# Altium integrated library Capacitor - Aluminium TH.IntLib: 4591 symbols (part 45 of 68)
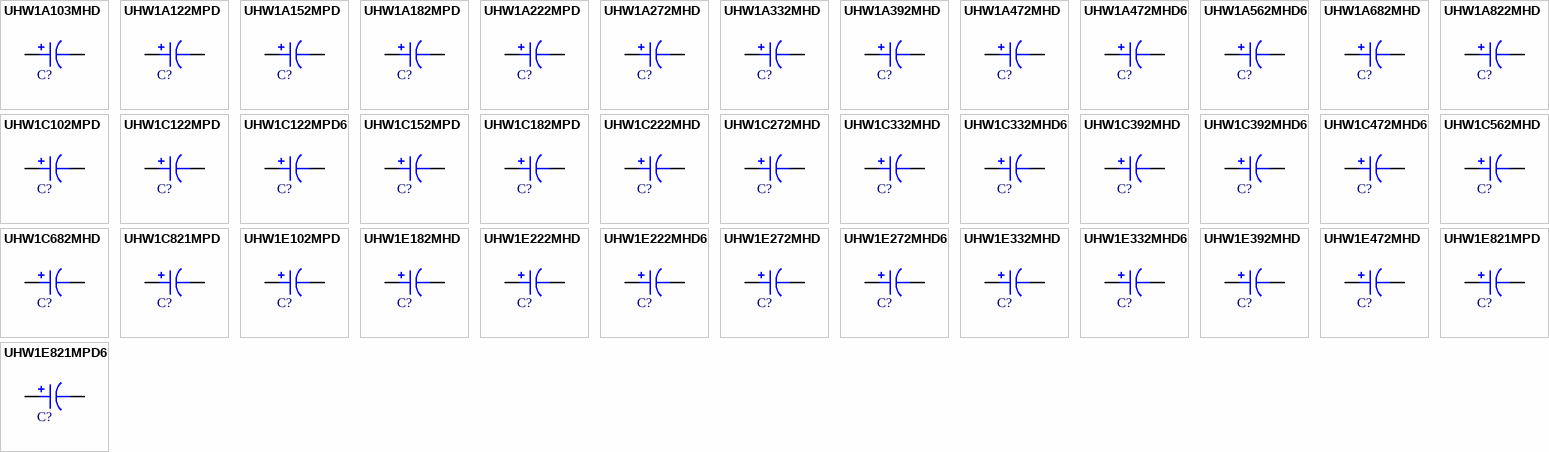
[diagram p158: symbols UHW1A103MHD to UHW1E821MPD6]

## UHW1C392MHD6
designator C?, comment 3900uF  (value not drawn)
CAP ALUM 3900UF 20% 16V RADIAL; Part Number: UHW1C392MHD6; Manufacturer: Nichicon; TemperatureRange: -40C ~ 105C; Type: Polar; Ripple Current: 2.681A @ 120Hz; Impedance: 14 mOhm; Value: 3900uF; PartId: 26476; Supplier 1: Digi-Key; Supplier Part Number 1: 493-6970-ND; ComponentLink1Description: Datasheet; ComponentLink1URL: http://nichicon-us.com/english/products/pdfs/e-uhw.pdf; ComponentLink2Description: Digi-Key Listing; ComponentLink2URL: https://www.digikey.com/product-detail/en/nichicon/UHW1C392MHD6/493-6970-ND/3664399; Tolerance: 20%; Voltage: 16V; Price: 1.76; Device Package: Radial, Can, 16mm
footprint CAP AL TH D16 L7.5 H22
pins: 1, 2

## UHW1C472MHD6
designator C?, comment 4700uF  (value not drawn)
CAP ALUM 4700UF 20% 16V RADIAL; Part Number: UHW1C472MHD6; Manufacturer: Nichicon; TemperatureRange: -40C ~ 105C; Type: Polar; Ripple Current: 3.239A @ 120Hz; Impedance: 13 mOhm; Value: 4700uF; PartId: 26947; Supplier 1: Digi-Key; Supplier Part Number 1: 493-6913-ND; ComponentLink1Description: Datasheet; ComponentLink1URL: http://nichicon-us.com/english/products/pdfs/e-uhw.pdf; ComponentLink2Description: Digi-Key Listing; ComponentLink2URL: https://www.digikey.com/product-detail/en/nichicon/UHW1C472MHD6/493-6913-ND/3664405; Tolerance: 20%; Voltage: 16V; Price: 2.02; Device Package: Radial, Can, 16mm
footprint CAP AL TH D16 L7.5 H27
pins: 1, 2

## UHW1C562MHD
designator C?, comment 5600uF  (value not drawn)
CAP ALUM 5600UF 20% 16V RADIAL; Part Number: UHW1C562MHD; Manufacturer: Nichicon; TemperatureRange: -40C ~ 105C; Type: Polar; Ripple Current: 3.239A @ 120Hz; Impedance: 13 mOhm; Value: 5600uF; PartId: 26956; Supplier 1: Digi-Key; Supplier Part Number 1: 493-6829-ND; ComponentLink1Description: Datasheet; ComponentLink1URL: http://nichicon-us.com/english/products/pdfs/e-uhw.pdf; ComponentLink2Description: Digi-Key Listing; ComponentLink2URL: https://www.digikey.com/product-detail/en/nichicon/UHW1C562MHD/493-6829-ND/3664408; Tolerance: 20%; Voltage: 16V; Price: 2.1; Device Package: Radial, Can, 16mm
footprint CAP AL TH D16 L7.5 H27
pins: 1, 2

## UHW1C682MHD
designator C?, comment 6800uF  (value not drawn)
CAP ALUM 6800UF 20% 16V RADIAL; Part Number: UHW1C682MHD; Manufacturer: Nichicon; TemperatureRange: -40C ~ 105C; Type: Polar; Ripple Current: 3.4A @ 120Hz; Impedance: 11 mOhm; Value: 6800uF; PartId: 27230; Supplier 1: Digi-Key; Supplier Part Number 1: 493-6931-ND; ComponentLink1Description: Datasheet; ComponentLink1URL: http://nichicon-us.com/english/products/pdfs/e-uhw.pdf; ComponentLink2Description: Digi-Key Listing; ComponentLink2URL: https://www.digikey.com/product-detail/en/nichicon/UHW1C682MHD/493-6931-ND/3664410; Tolerance: 20%; Voltage: 16V; Price: 2.44; Device Package: Radial, Can, 16mm
footprint CAP AL TH D16 L7.5 H33.5
pins: 1, 2

## UHW1C821MPD
designator C?, comment 820uF  (value not drawn)
CAP ALUM 820UF 20% 16V RADIAL; Part Number: UHW1C821MPD; Manufacturer: Nichicon; TemperatureRange: -40C ~ 105C; Type: Polar; Ripple Current: 1.2A @ 120Hz; Impedance: 30 mOhm; Value: 820uF; PartId: 25389; Supplier 1: Digi-Key; Supplier Part Number 1: 493-6878-ND; ComponentLink1Description: Datasheet; ComponentLink1URL: http://nichicon-us.com/english/products/pdfs/e-uhw.pdf; ComponentLink2Description: Digi-Key Listing; ComponentLink2URL: https://www.digikey.com/product-detail/en/nichicon/UHW1C821MPD/493-6878-ND/3664319; Tolerance: 20%; Voltage: 16V; Price: 0.77; Device Package: Radial, Can, 10mm
footprint CAP AL TH D10 L5 H17.5
pins: 1, 2

## UHW1E102MPD
designator C?, comment 1000uF  (value not drawn)
CAP ALUM 1000UF 20% 25V RADIAL; Part Number: UHW1E102MPD; Manufacturer: Nichicon; TemperatureRange: -40C ~ 105C; Type: Polar; Ripple Current: 1.5A @ 120Hz; Impedance: 19 mOhm; Value: 1000uF; PartId: 25982; Supplier 1: Digi-Key; Supplier Part Number 1: 493-6877-ND; ComponentLink1Description: Datasheet; ComponentLink1URL: http://nichicon-us.com/english/products/pdfs/e-uhw.pdf; ComponentLink2Description: Digi-Key Listing; ComponentLink2URL: https://www.digikey.com/product-detail/en/nichicon/UHW1E102MPD/493-6877-ND/3664346; Tolerance: 20%; Voltage: 25V; Price: 0.93; Device Package: Radial, Can, 10mm
footprint CAP AL TH D10 L5 H22
pins: 1, 2

## UHW1E182MHD
designator C?, comment 1800uF  (value not drawn)
CAP ALUM 1800UF 20% 25V RADIAL; Part Number: UHW1E182MHD; Manufacturer: Nichicon; TemperatureRange: -40C ~ 105C; Type: Polar; Ripple Current: 1.92A @ 120Hz; Impedance: 15 mOhm; Value: 1800uF; PartId: 24123; Supplier 1: Digi-Key; Supplier Part Number 1: 493-6848-ND; ComponentLink1Description: Datasheet; ComponentLink1URL: http://nichicon-us.com/english/products/pdfs/e-uhw.pdf; ComponentLink2Description: Digi-Key Listing; ComponentLink2URL: https://www.digikey.com/product-detail/en/nichicon/UHW1E182MHD/493-6848-ND/3664357; Tolerance: 20%; Voltage: 25V; Price: 1.42; Device Package: Radial, Can, 12.5mm
footprint CAP AL TH D12.5 L5 H27
pins: 1, 2

## UHW1E222MHD
designator C?, comment 2200uF  (value not drawn)
CAP ALUM 2200UF 20% 25V RADIAL; Part Number: UHW1E222MHD; Manufacturer: Nichicon; TemperatureRange: -40C ~ 105C; Type: Polar; Ripple Current: 3.95A @ 120Hz; Impedance: 15 mOhm; Value: 2200uF; PartId: 24133; Supplier 1: Digi-Key; Supplier Part Number 1: 493-6873-ND; ComponentLink1Description: Datasheet; ComponentLink1URL: http://nichicon-us.com/english/products/pdfs/e-uhw.pdf; ComponentLink2Description: Digi-Key Listing; ComponentLink2URL: https://www.digikey.com/product-detail/en/nichicon/UHW1E222MHD/493-6873-ND/3664328; Tolerance: 20%; Voltage: 25V; Price: 1.45; Device Package: Radial, Can, 12.5mm
footprint CAP AL TH D12.5 L5 H27
pins: 1, 2

## UHW1E222MHD6
designator C?, comment 2200uF  (value not drawn)
CAP ALUM 2200UF 20% 25V RADIAL; Part Number: UHW1E222MHD6; Manufacturer: Nichicon; TemperatureRange: -40C ~ 105C; Type: Polar; Ripple Current: 2.681A @ 120Hz; Impedance: 14 mOhm; Value: 2200uF; PartId: 26491; Supplier 1: Digi-Key; Supplier Part Number 1: 493-6802-ND; ComponentLink1Description: Datasheet; ComponentLink1URL: http://nichicon-us.com/english/products/pdfs/e-uhw.pdf; ComponentLink2Description: Digi-Key Listing; ComponentLink2URL: https://www.digikey.com/product-detail/en/nichicon/UHW1E222MHD6/493-6802-ND/3664331; Tolerance: 20%; Voltage: 25V; Price: 1.87; Device Package: Radial, Can, 16mm
footprint CAP AL TH D16 L7.5 H22
pins: 1, 2

## UHW1E272MHD
designator C?, comment 2700uF  (value not drawn)
CAP ALUM 2700UF 20% 25V RADIAL; Part Number: UHW1E272MHD; Manufacturer: Nichicon; TemperatureRange: -40C ~ 105C; Type: Polar; Ripple Current: 2.846A @ 120Hz; Impedance: 12 mOhm; Value: 2700uF; PartId: 24398; Supplier 1: Digi-Key; Supplier Part Number 1: 493-6846-ND; ComponentLink1Description: Datasheet; ComponentLink1URL: http://nichicon-us.com/english/products/pdfs/e-uhw.pdf; ComponentLink2Description: Digi-Key Listing; ComponentLink2URL: https://www.digikey.com/product-detail/en/nichicon/UHW1E272MHD/493-6846-ND/3664335; Tolerance: 20%; Voltage: 25V; Price: 1.83; Device Package: Radial, Can, 12.5mm
footprint CAP AL TH D12.5 L5 H35.5
pins: 1, 2

## UHW1E272MHD6
designator C?, comment 2700uF  (value not drawn)
CAP ALUM 2700UF 20% 25V RADIAL; Part Number: UHW1E272MHD6; Manufacturer: Nichicon; TemperatureRange: -40C ~ 105C; Type: Polar; Ripple Current: 2.682A @ 120Hz; Impedance: 14 mOhm; Value: 2700uF; PartId: 26481; Supplier 1: Digi-Key; Supplier Part Number 1: 493-6943-ND; ComponentLink1Description: Datasheet; ComponentLink1URL: http://nichicon-us.com/english/products/pdfs/e-uhw.pdf; ComponentLink2Description: Digi-Key Listing; ComponentLink2URL: https://www.digikey.com/product-detail/en/nichicon/UHW1E272MHD6/493-6943-ND/3664458; Tolerance: 20%; Voltage: 25V; Price: 1.8; Device Package: Radial, Can, 16mm
footprint CAP AL TH D16 L7.5 H22
pins: 1, 2

## UHW1E332MHD
designator C?, comment 3300uF  (value not drawn)
CAP ALUM 3300UF 20% 25V RADIAL; Part Number: UHW1E332MHD; Manufacturer: Nichicon; TemperatureRange: -40C ~ 105C; Type: Polar; Ripple Current: 3.502A @ 120Hz; Impedance: 11 mOhm; Value: 3300uF; PartId: 24397; Supplier 1: Digi-Key; Supplier Part Number 1: 493-6870-ND; ComponentLink1Description: Datasheet; ComponentLink1URL: http://nichicon-us.com/english/products/pdfs/e-uhw.pdf; ComponentLink2Description: Digi-Key Listing; ComponentLink2URL: https://www.digikey.com/product-detail/en/nichicon/UHW1E332MHD/493-6870-ND/3664365; Tolerance: 20%; Voltage: 25V; Price: 1.83; Device Package: Radial, Can, 12.5mm
footprint CAP AL TH D12.5 L5 H35.5
pins: 1, 2

## UHW1E332MHD6
designator C?, comment 3300uF  (value not drawn)
CAP ALUM 3300UF 20% 25V RADIAL; Part Number: UHW1E332MHD6; Manufacturer: Nichicon; TemperatureRange: -40C ~ 105C; Type: Polar; Ripple Current: 2.858A @ 120Hz; Impedance: 13 mOhm; Value: 3300uF; PartId: 26951; Supplier 1: Digi-Key; Supplier Part Number 1: 493-6869-ND; ComponentLink1Description: Datasheet; ComponentLink1URL: http://nichicon-us.com/english/products/pdfs/e-uhw.pdf; ComponentLink2Description: Digi-Key Listing; ComponentLink2URL: https://www.digikey.com/product-detail/en/nichicon/UHW1E332MHD6/493-6869-ND/3664371; Tolerance: 20%; Voltage: 25V; Price: 2.05; Device Package: Radial, Can, 16mm
footprint CAP AL TH D16 L7.5 H27
pins: 1, 2

## UHW1E392MHD
designator C?, comment 3900uF  (value not drawn)
CAP ALUM 3900UF 20% 25V RADIAL; Part Number: UHW1E392MHD; Manufacturer: Nichicon; TemperatureRange: -40C ~ 105C; Type: Polar; Ripple Current: 2.858A @ 120Hz; Impedance: 13 mOhm; Value: 3900uF; PartId: 26958; Supplier 1: Digi-Key; Supplier Part Number 1: 493-6868-ND; ComponentLink1Description: Datasheet; ComponentLink1URL: http://nichicon-us.com/english/products/pdfs/e-uhw.pdf; ComponentLink2Description: Digi-Key Listing; ComponentLink2URL: https://www.digikey.com/product-detail/en/nichicon/UHW1E392MHD/493-6868-ND/3664375; Tolerance: 20%; Voltage: 25V; Price: 2.11; Device Package: Radial, Can, 16mm
footprint CAP AL TH D16 L7.5 H27
pins: 1, 2

## UHW1E472MHD
designator C?, comment 4700uF  (value not drawn)
CAP ALUM 4700UF 20% 25V RADIAL; Part Number: UHW1E472MHD; Manufacturer: Nichicon; TemperatureRange: -40C ~ 105C; Type: Polar; Ripple Current: 3.4A @ 120Hz; Impedance: 11 mOhm; Value: 4700uF; PartId: 27231; Supplier 1: Digi-Key; Supplier Part Number 1: 493-6887-ND; ComponentLink1Description: Datasheet; ComponentLink1URL: http://nichicon-us.com/english/products/pdfs/e-uhw.pdf; ComponentLink2Description: Digi-Key Listing; ComponentLink2URL: https://www.digikey.com/product-detail/en/nichicon/UHW1E472MHD/493-6887-ND/3664377; Tolerance: 20%; Voltage: 25V; Price: 2.45; Device Package: Radial, Can, 16mm
footprint CAP AL TH D16 L7.5 H33.5
pins: 1, 2

## UHW1E821MPD
designator C?, comment 820uF  (value not drawn)
CAP ALUM 820UF 20% 25V RADIAL; Part Number: UHW1E821MPD; Manufacturer: Nichicon; TemperatureRange: -40C ~ 105C; Type: Polar; Ripple Current: 1.5A @ 120Hz; Impedance: 19 mOhm; Value: 820uF; PartId: 25981; Supplier 1: Digi-Key; Supplier Part Number 1: 493-6971-ND; ComponentLink1Description: Datasheet; ComponentLink1URL: http://nichicon-us.com/english/products/pdfs/e-uhw.pdf; ComponentLink2Description: Digi-Key Listing; ComponentLink2URL: https://www.digikey.com/product-detail/en/nichicon/UHW1E821MPD/493-6971-ND/3664416; Tolerance: 20%; Voltage: 25V; Price: 0.92; Device Package: Radial, Can, 10mm
footprint CAP AL TH D10 L5 H22
pins: 1, 2

## UHW1E821MPD6
designator C?, comment 820uF  (value not drawn)
CAP ALUM 820UF 20% 25V RADIAL; Part Number: UHW1E821MPD6; Manufacturer: Nichicon; TemperatureRange: -40C ~ 105C; Type: Polar; Ripple Current: 1.2A @ 120Hz; Impedance: 30 mOhm; Value: 820uF; PartId: 25404; Supplier 1: Digi-Key; Supplier Part Number 1: 493-6850-ND; ComponentLink1Description: Datasheet; ComponentLink1URL: http://nichicon-us.com/english/products/pdfs/e-uhw.pdf; ComponentLink2Description: Digi-Key Listing; ComponentLink2URL: https://www.digikey.com/product-detail/en/nichicon/UHW1E821MPD6/493-6850-ND/3664318; Tolerance: 20%; Voltage: 25V; Price: 0.81; Device Package: Radial, Can, 10mm
footprint CAP AL TH D10 L5 H17.5
pins: 1, 2

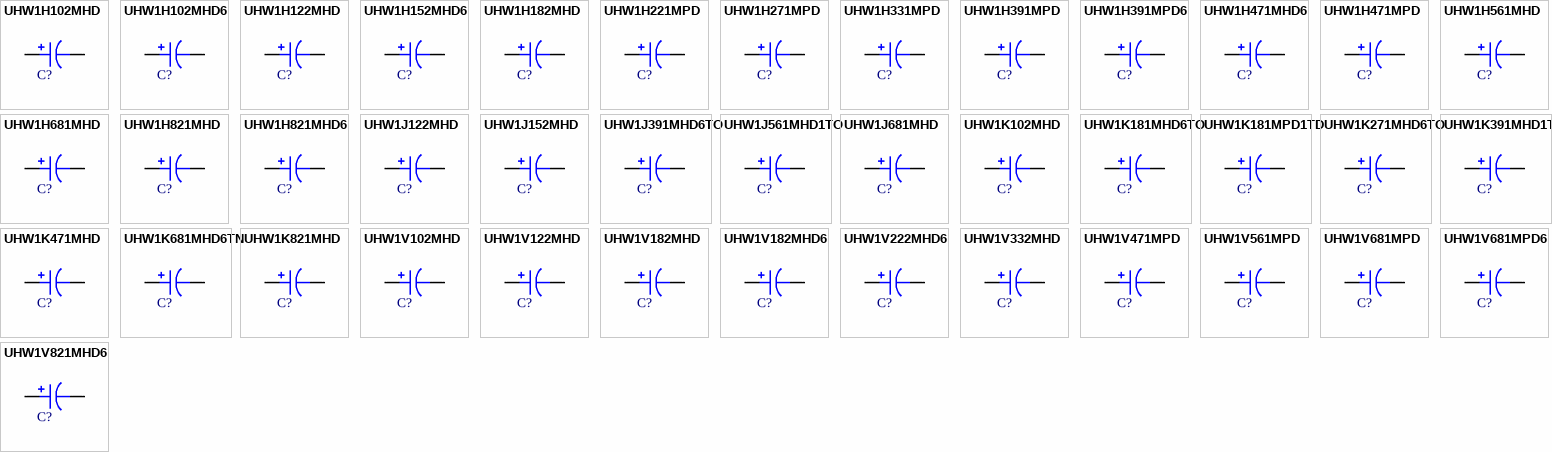
[diagram p74: symbols UHW1H102MHD to UHW1V821MHD6]

## UHW1H102MHD
designator C?, comment 1000uF  (value not drawn)
CAP ALUM 1000UF 20% 50V RADIAL; Part Number: UHW1H102MHD; Manufacturer: Nichicon; TemperatureRange: -40C ~ 105C; Type: Polar; Ripple Current: 2.1A @ 120Hz; Impedance: 20 mOhm; Value: 1000uF; PartId: 24376; Supplier 1: Digi-Key; Supplier Part Number 1: 493-6910-ND; ComponentLink1Description: Datasheet; ComponentLink1URL: http://nichicon-us.com/english/products/pdfs/e-uhw.pdf; ComponentLink2Description: Digi-Key Listing; ComponentLink2URL: https://www.digikey.com/product-detail/en/nichicon/UHW1H102MHD/493-6910-ND/3664320; Tolerance: 20%; Voltage: 50V; Price: 1.66; Device Package: Radial, Can, 12.5mm
footprint CAP AL TH D12.5 L5 H35.5
pins: 1, 2

## UHW1H102MHD6
designator C?, comment 1000uF  (value not drawn)
CAP ALUM 1000UF 20% 50V RADIAL; Part Number: UHW1H102MHD6; Manufacturer: Nichicon; TemperatureRange: -40C ~ 105C; Type: Polar; Ripple Current: 1.962A @ 120Hz; Impedance: 21 mOhm; Value: 1000uF; PartId: 26945; Supplier 1: Digi-Key; Supplier Part Number 1: 493-6946-ND; ComponentLink1Description: Datasheet; ComponentLink1URL: http://nichicon-us.com/english/products/pdfs/e-uhw.pdf; ComponentLink2Description: Digi-Key Listing; ComponentLink2URL: https://www.digikey.com/product-detail/en/nichicon/UHW1H102MHD6/493-6946-ND/3664355; Tolerance: 20%; Voltage: 50V; Price: 1.95; Device Package: Radial, Can, 16mm
footprint CAP AL TH D16 L7.5 H27
pins: 1, 2

## UHW1H122MHD
designator C?, comment 1200uF  (value not drawn)
CAP ALUM 1200UF 20% 50V RADIAL; Part Number: UHW1H122MHD; Manufacturer: Nichicon; TemperatureRange: -40C ~ 105C; Type: Polar; Ripple Current: 1.962A @ 120Hz; Impedance: 21 mOhm; Value: 1200uF; PartId: 26954; Supplier 1: Digi-Key; Supplier Part Number 1: 493-6945-ND; ComponentLink1Description: Datasheet; ComponentLink1URL: http://nichicon-us.com/english/products/pdfs/e-uhw.pdf; ComponentLink2Description: Digi-Key Listing; ComponentLink2URL: https://www.digikey.com/product-detail/en/nichicon/UHW1H122MHD/493-6945-ND/3664360; Tolerance: 20%; Voltage: 50V; Price: 2.07; Device Package: Radial, Can, 16mm
footprint CAP AL TH D16 L7.5 H27
pins: 1, 2

## UHW1H152MHD6
designator C?, comment 1500uF  (value not drawn)
CAP ALUM 1500UF 20% 50V RADIAL; Part Number: UHW1H152MHD6; Manufacturer: Nichicon; TemperatureRange: -40C ~ 105C; Type: Polar; Ripple Current: 1.962A @ 120Hz; Impedance: 21 mOhm; Value: 1500uF; PartId: 26957; Supplier 1: Digi-Key; Supplier Part Number 1: 493-6907-ND; ComponentLink1Description: Datasheet; ComponentLink1URL: http://nichicon-us.com/english/products/pdfs/e-uhw.pdf; ComponentLink2Description: Digi-Key Listing; ComponentLink2URL: https://www.digikey.com/product-detail/en/nichicon/UHW1H152MHD6/493-6907-ND/3664460; Tolerance: 20%; Voltage: 50V; Price: 2.11; Device Package: Radial, Can, 16mm
footprint CAP AL TH D16 L7.5 H27
pins: 1, 2

## UHW1H182MHD
designator C?, comment 1800uF  (value not drawn)
CAP ALUM 1800UF 20% 50V RADIAL; Part Number: UHW1H182MHD; Manufacturer: Nichicon; TemperatureRange: -40C ~ 105C; Type: Polar; Ripple Current: 2.058A @ 120Hz; Impedance: 19 mOhm; Value: 1800uF; PartId: 27223; Supplier 1: Digi-Key; Supplier Part Number 1: 493-6965-ND; ComponentLink1Description: Datasheet; ComponentLink1URL: http://nichicon-us.com/english/products/pdfs/e-uhw.pdf; ComponentLink2Description: Digi-Key Listing; ComponentLink2URL: https://www.digikey.com/product-detail/en/nichicon/UHW1H182MHD/493-6965-ND/3664369; Tolerance: 20%; Voltage: 50V; Price: 2.35; Device Package: Radial, Can, 16mm
footprint CAP AL TH D16 L7.5 H33.5
pins: 1, 2

## UHW1H221MPD
designator C?, comment 220uF  (value not drawn)
CAP ALUM 220UF 20% 50V RADIAL; Part Number: UHW1H221MPD; Manufacturer: Nichicon; TemperatureRange: -40C ~ 105C; Type: Polar; Ripple Current: 825mA @ 120Hz; Impedance: 42 mOhm; Value: 220uF; PartId: 25411; Supplier 1: Digi-Key; Supplier Part Number 1: 493-6817-ND; ComponentLink1Description: Datasheet; ComponentLink1URL: http://nichicon-us.com/english/products/pdfs/e-uhw.pdf; ComponentLink2Description: Digi-Key Listing; ComponentLink2URL: https://www.digikey.com/product-detail/en/nichicon/UHW1H221MPD/493-6817-ND/3664373; Tolerance: 20%; Voltage: 50V; Price: 0.84; Device Package: Radial, Can, 10mm
footprint CAP AL TH D10 L5 H17.5
pins: 1, 2

## UHW1H271MPD
designator C?, comment 270uF  (value not drawn)
CAP ALUM 270UF 20% 50V RADIAL; Part Number: UHW1H271MPD; Manufacturer: Nichicon; TemperatureRange: -40C ~ 105C; Type: Polar; Ripple Current: 1.03A @ 120Hz; Impedance: 30 mOhm; Value: 270uF; PartId: 25975; Supplier 1: Digi-Key; Supplier Part Number 1: 493-6962-ND; ComponentLink1Description: Datasheet; ComponentLink1URL: http://nichicon-us.com/english/products/pdfs/e-uhw.pdf; ComponentLink2Description: Digi-Key Listing; ComponentLink2URL: https://www.digikey.com/product-detail/en/nichicon/UHW1H271MPD/493-6962-ND/3664376; Tolerance: 20%; Voltage: 50V; Price: 0.88; Device Package: Radial, Can, 10mm
footprint CAP AL TH D10 L5 H22
pins: 1, 2

## UHW1H331MPD
designator C?, comment 330uF  (value not drawn)
CAP ALUM 330UF 20% 50V RADIAL; Part Number: UHW1H331MPD; Manufacturer: Nichicon; TemperatureRange: -40C ~ 105C; Type: Polar; Ripple Current: 1.03A @ 120Hz; Impedance: 30 mOhm; Value: 330uF; PartId: 25984; Supplier 1: Digi-Key; Supplier Part Number 1: 493-6975-ND; ComponentLink1Description: Datasheet; ComponentLink1URL: http://nichicon-us.com/english/products/pdfs/e-uhw.pdf; ComponentLink2Description: Digi-Key Listing; ComponentLink2URL: https://www.digikey.com/product-detail/en/nichicon/UHW1H331MPD/493-6975-ND/3664378; Tolerance: 20%; Voltage: 50V; Price: 0.93; Device Package: Radial, Can, 10mm
footprint CAP AL TH D10 L5 H22
pins: 1, 2

## UHW1H391MPD
designator C?, comment 390uF  (value not drawn)
CAP ALUM 390UF 20% 50V RADIAL; Part Number: UHW1H391MPD; Manufacturer: Nichicon; TemperatureRange: -40C ~ 105C; Type: Polar; Ripple Current: 1.21A @ 120Hz; Impedance: 28 mOhm; Value: 390uF; PartId: 26177; Supplier 1: Digi-Key; Supplier Part Number 1: 493-6914-ND; ComponentLink1Description: Datasheet; ComponentLink1URL: http://nichicon-us.com/english/products/pdfs/e-uhw.pdf; ComponentLink2Description: Digi-Key Listing; ComponentLink2URL: https://www.digikey.com/product-detail/en/nichicon/UHW1H391MPD/493-6914-ND/3664382; Tolerance: 20%; Voltage: 50V; Price: 0.97; Device Package: Radial, Can, 10mm
footprint CAP AL TH D10 L5 H30
pins: 1, 2

## UHW1H391MPD6
designator C?, comment 390uF  (value not drawn)
CAP ALUM 390UF 20% 50V RADIAL; Part Number: UHW1H391MPD6; Manufacturer: Nichicon; TemperatureRange: -40C ~ 105C; Type: Polar; Ripple Current: 1.03A @ 120Hz; Impedance: 30 mOhm; Value: 390uF; PartId: 25978; Supplier 1: Digi-Key; Supplier Part Number 1: 493-6885-ND; ComponentLink1Description: Datasheet; ComponentLink1URL: http://nichicon-us.com/english/products/pdfs/e-uhw.pdf; ComponentLink2Description: Digi-Key Listing; ComponentLink2URL: https://www.digikey.com/product-detail/en/nichicon/UHW1H391MPD6/493-6885-ND/3664386; Tolerance: 20%; Voltage: 50V; Price: 0.91; Device Package: Radial, Can, 10mm
footprint CAP AL TH D10 L5 H22
pins: 1, 2

## UHW1H471MHD6
designator C?, comment 470uF  (value not drawn)
CAP ALUM 470UF 20% 50V RADIAL; Part Number: UHW1H471MHD6; Manufacturer: Nichicon; TemperatureRange: -40C ~ 105C; Type: Polar; Ripple Current: 1.21A @ 120Hz; Impedance: 27 mOhm; Value: 470uF; PartId: 23490; Supplier 1: Digi-Key; Supplier Part Number 1: 493-6951-ND; ComponentLink1Description: Datasheet; ComponentLink1URL: http://nichicon-us.com/english/products/pdfs/e-uhw.pdf; ComponentLink2Description: Digi-Key Listing; ComponentLink2URL: https://www.digikey.com/product-detail/en/nichicon/UHW1H471MHD6/493-6951-ND/3664391; Tolerance: 20%; Voltage: 50V; Price: 1.18; Device Package: Radial, Can, 12.5mm
footprint CAP AL TH D12.5 L5 H22
pins: 1, 2

## UHW1H471MPD
designator C?, comment 470uF  (value not drawn)
CAP ALUM 470UF 20% 50V RADIAL; Part Number: UHW1H471MPD; Manufacturer: Nichicon; TemperatureRange: -40C ~ 105C; Type: Polar; Ripple Current: 1.15A @ 120Hz; Impedance: 28 mOhm; Value: 470uF; PartId: 26176; Supplier 1: Digi-Key; Supplier Part Number 1: 493-6972-ND; ComponentLink1Description: Datasheet; ComponentLink1URL: http://nichicon-us.com/english/products/pdfs/e-uhw.pdf; ComponentLink2Description: Digi-Key Listing; ComponentLink2URL: https://www.digikey.com/product-detail/en/nichicon/UHW1H471MPD/493-6972-ND/3664388; Tolerance: 20%; Voltage: 50V; Price: 0.97; Device Package: Radial, Can, 10mm
footprint CAP AL TH D10 L5 H30
pins: 1, 2

## UHW1H561MHD
designator C?, comment 560uF  (value not drawn)
CAP ALUM 560UF 20% 50V RADIAL; Part Number: UHW1H561MHD; Manufacturer: Nichicon; TemperatureRange: -40C ~ 105C; Type: Polar; Ripple Current: 1.15A @ 120Hz; Impedance: 27 mOhm; Value: 560uF; PartId: 23492; Supplier 1: Digi-Key; Supplier Part Number 1: 493-6824-ND; ComponentLink1Description: Datasheet; ComponentLink1URL: http://nichicon-us.com/english/products/pdfs/e-uhw.pdf; ComponentLink2Description: Digi-Key Listing; ComponentLink2URL: https://www.digikey.com/product-detail/en/nichicon/UHW1H561MHD/493-6824-ND/3664394; Tolerance: 20%; Voltage: 50V; Price: 1.18; Device Package: Radial, Can, 12.5mm
footprint CAP AL TH D12.5 L5 H22
pins: 1, 2

## UHW1H681MHD
designator C?, comment 680uF  (value not drawn)
CAP ALUM 680UF 20% 50V RADIAL; Part Number: UHW1H681MHD; Manufacturer: Nichicon; TemperatureRange: -40C ~ 105C; Type: Polar; Ripple Current: 1.68A @ 120Hz; Impedance: 23 mOhm; Value: 680uF; PartId: 24134; Supplier 1: Digi-Key; Supplier Part Number 1: 493-6912-ND; ComponentLink1Description: Datasheet; ComponentLink1URL: http://nichicon-us.com/english/products/pdfs/e-uhw.pdf; ComponentLink2Description: Digi-Key Listing; ComponentLink2URL: https://www.digikey.com/product-detail/en/nichicon/UHW1H681MHD/493-6912-ND/3664400; Tolerance: 20%; Voltage: 50V; Price: 1.45; Device Package: Radial, Can, 12.5mm
footprint CAP AL TH D12.5 L5 H27
pins: 1, 2

## UHW1H821MHD
designator C?, comment 820uF  (value not drawn)
CAP ALUM 820UF 20% 50V RADIAL; Part Number: UHW1H821MHD; Manufacturer: Nichicon; TemperatureRange: -40C ~ 105C; Type: Polar; Ripple Current: 1.68A @ 120Hz; Impedance: 23 mOhm; Value: 820uF; PartId: 24137; Supplier 1: Digi-Key; Supplier Part Number 1: 493-6925-ND; ComponentLink1Description: Datasheet; ComponentLink1URL: http://nichicon-us.com/english/products/pdfs/e-uhw.pdf; ComponentLink2Description: Digi-Key Listing; ComponentLink2URL: https://www.digikey.com/product-detail/en/nichicon/UHW1H821MHD/493-6925-ND/3664403; Tolerance: 20%; Voltage: 50V; Price: 1.45; Device Package: Radial, Can, 12.5mm
footprint CAP AL TH D12.5 L5 H27
pins: 1, 2

## UHW1H821MHD6
designator C?, comment 820uF  (value not drawn)
CAP ALUM 820UF 20% 50V RADIAL; Part Number: UHW1H821MHD6; Manufacturer: Nichicon; TemperatureRange: -40C ~ 105C; Type: Polar; Ripple Current: 1.842A @ 120Hz; Impedance: 23 mOhm; Value: 820uF; PartId: 26474; Supplier 1: Digi-Key; Supplier Part Number 1: 493-6875-ND; ComponentLink1Description: Datasheet; ComponentLink1URL: http://nichicon-us.com/english/products/pdfs/e-uhw.pdf; ComponentLink2Description: Digi-Key Listing; ComponentLink2URL: https://www.digikey.com/product-detail/en/nichicon/UHW1H821MHD6/493-6875-ND/3664344; Tolerance: 20%; Voltage: 50V; Price: 1.74; Device Package: Radial, Can, 16mm
footprint CAP AL TH D16 L7.5 H22
pins: 1, 2

## UHW1J122MHD
designator C?, comment 1200uF  (value not drawn)
CAP ALUM 1200UF 20% 63V RADIAL; Part Number: UHW1J122MHD; Manufacturer: Nichicon; TemperatureRange: -40C ~ 105C; Type: Polar; Ripple Current: 1.758A @ 120Hz; Impedance: 38 mOhm; Value: 1200uF; PartId: 27211; Supplier 1: Digi-Key; Supplier Part Number 1: 493-14569-ND; ComponentLink1Description: Datasheet; ComponentLink1URL: http://www.nichicon.co.jp/english/products/pdfs/UHW_e.pdf; ComponentLink2Description: Digi-Key Listing; ComponentLink2URL: https://www.digikey.com/product-detail/en/nichicon/UHW1J122MHD/493-14569-ND/5818008; Tolerance: 20%; Voltage: 63V; Price: 2.27; Device Package: Radial, Can, 16mm
footprint CAP AL TH D16 L7.5 H33.5
pins: 1, 2

## UHW1J152MHD
designator C?, comment 1500uF  (value not drawn)
CAP ALUM 1500UF 20% 63V RADIAL; Part Number: UHW1J152MHD; Manufacturer: Nichicon; TemperatureRange: -40C ~ 105C; Type: Polar; Ripple Current: 1.86A @ 120Hz; Impedance: 23 mOhm; Value: 1500uF; PartId: 27418; Supplier 1: Digi-Key; Supplier Part Number 1: 493-14570-ND; ComponentLink1Description: Datasheet; ComponentLink1URL: http://www.nichicon.co.jp/english/products/pdfs/UHW_e.pdf; ComponentLink2Description: Digi-Key Listing; ComponentLink2URL: https://www.digikey.com/product-detail/en/nichicon/UHW1J152MHD/493-14570-ND/5818009; Tolerance: 20%; Voltage: 63V; Price: 2.65; Device Package: Radial, Can, 16mm
footprint CAP AL TH D16 L7.5 H37
pins: 1, 2

## UHW1J391MHD6TO
designator C?, comment 390uF  (value not drawn)
CAP ALUM 390UF 20% 63V RADIAL; Part Number: UHW1J391MHD6TO; Manufacturer: Nichicon; TemperatureRange: -40C ~ 105C; Type: Polar; Ripple Current: 995mA @ 120Hz; Impedance: 65 mOhm; Value: 390uF; PartId: 23501; Supplier 1: Digi-Key; Supplier Part Number 1: 493-14599-1-ND; ComponentLink1Description: Datasheet; ComponentLink1URL: http://www.nichicon.co.jp/english/products/pdfs/UHW_e.pdf; ComponentLink2Description: Digi-Key Listing; ComponentLink2URL: https://www.digikey.com/product-detail/en/nichicon/UHW1J391MHD6TO/493-14599-1-ND/5818066; Tolerance: 20%; Voltage: 63V; Price: 1.24; Device Package: Radial, Can, 12.5mm
footprint CAP AL TH D12.5 L5 H22
pins: 1, 2

## UHW1J561MHD1TO
designator C?, comment 560uF  (value not drawn)
CAP ALUM 560UF 20% 63V RADIAL; Part Number: UHW1J561MHD1TO; Manufacturer: Nichicon; TemperatureRange: -40C ~ 105C; Type: Polar; Ripple Current: 1.23A @ 120Hz; Impedance: 49 mOhm; Value: 560uF; PartId: 24144; Supplier 1: Digi-Key; Supplier Part Number 1: 493-14600-1-ND; ComponentLink1Description: Datasheet; ComponentLink1URL: http://www.nichicon.co.jp/english/products/pdfs/UHW_e.pdf; ComponentLink2Description: Digi-Key Listing; ComponentLink2URL: https://www.digikey.com/product-detail/en/nichicon/UHW1J561MHD1TO/493-14600-1-ND/5818067; Tolerance: 20%; Voltage: 63V; Price: 1.48; Device Package: Radial, Can, 12.5mm
footprint CAP AL TH D12.5 L5 H27
pins: 1, 2

## UHW1J681MHD
designator C?, comment 680uF  (value not drawn)
CAP ALUM 680UF 20% 63V RADIAL; Part Number: UHW1J681MHD; Manufacturer: Nichicon; TemperatureRange: -40C ~ 105C; Type: Polar; Ripple Current: 1.656A @ 120Hz; Impedance: 44 mOhm; Value: 680uF; PartId: 24369; Supplier 1: Digi-Key; Supplier Part Number 1: 493-14567-ND; ComponentLink1Description: Datasheet; ComponentLink1URL: http://www.nichicon.co.jp/english/products/pdfs/UHW_e.pdf; ComponentLink2Description: Digi-Key Listing; ComponentLink2URL: https://www.digikey.com/product-detail/en/nichicon/UHW1J681MHD/493-14567-ND/5818006; Tolerance: 20%; Voltage: 63V; Price: 1.58; Device Package: Radial, Can, 12.5mm
footprint CAP AL TH D12.5 L5 H35.5
pins: 1, 2

## UHW1K102MHD
designator C?, comment 1000uF  (value not drawn)
CAP ALUM 1000UF 20% 80V RADIAL; Part Number: UHW1K102MHD; Manufacturer: Nichicon; TemperatureRange: -40C ~ 105C; Type: Polar; Ripple Current: 1.716A @ 120Hz; Impedance: 30 mOhm; Value: 1000uF; PartId: 27421; Supplier 1: Digi-Key; Supplier Part Number 1: 493-14582-ND; ComponentLink1Description: Datasheet; ComponentLink1URL: http://www.nichicon.co.jp/english/products/pdfs/UHW_e.pdf; ComponentLink2Description: Digi-Key Listing; ComponentLink2URL: https://www.digikey.com/product-detail/en/nichicon/UHW1K102MHD/493-14582-ND/5818021; Tolerance: 20%; Voltage: 80V; Price: 2.69; Device Package: Radial, Can, 16mm
footprint CAP AL TH D16 L7.5 H37
pins: 1, 2

## UHW1K181MHD6TO
designator C?, comment 180uF  (value not drawn)
CAP ALUM 180UF 20% 80V RADIAL; Part Number: UHW1K181MHD6TO; Manufacturer: Nichicon; TemperatureRange: -40C ~ 105C; Type: Polar; Ripple Current: 572mA @ 120Hz; Impedance: 115 mOhm; Value: 180uF; PartId: 22766; Supplier 1: Digi-Key; Supplier Part Number 1: 493-14608-1-ND; ComponentLink1Description: Datasheet; ComponentLink1URL: http://www.nichicon.co.jp/english/products/pdfs/UHW_e.pdf; ComponentLink2Description: Digi-Key Listing; ComponentLink2URL: https://www.digikey.com/product-detail/en/nichicon/UHW1K181MHD6TO/493-14608-1-ND/5818075; Tolerance: 20%; Voltage: 80V; Price: 0; Device Package: Radial, Can, 12.5mm
footprint CAP AL TH D12.5 L5 H16.5
pins: 1, 2

## UHW1K181MPD1TD
designator C?, comment 180uF  (value not drawn)
CAP ALUM 180UF 20% 80V RADIAL; Part Number: UHW1K181MPD1TD; Manufacturer: Nichicon; TemperatureRange: -40C ~ 105C; Type: Polar; Ripple Current: 572mA @ 120Hz; Impedance: 88 mOhm; Value: 180uF; PartId: 25830; Supplier 1: Digi-Key; Supplier Part Number 1: 493-14607-3-ND; ComponentLink1Description: Datasheet; ComponentLink1URL: http://www.nichicon.co.jp/english/products/pdfs/UHW_e.pdf; ComponentLink2Description: Digi-Key Listing; ComponentLink2URL: https://www.digikey.com/product-detail/en/nichicon/UHW1K181MPD1TD/493-14607-3-ND/5818045; Tolerance: 20%; Voltage: 80V; Price: 0.3637; Device Package: Radial, Can, 10mm
footprint CAP AL TH D10 L5 H22
pins: 1, 2

## UHW1K271MHD6TO
designator C?, comment 270uF  (value not drawn)
CAP ALUM 270UF 20% 80V RADIAL; Part Number: UHW1K271MHD6TO; Manufacturer: Nichicon; TemperatureRange: -40C ~ 105C; Type: Polar; Ripple Current: 875mA @ 120Hz; Impedance: 65 mOhm; Value: 270uF; PartId: 23503; Supplier 1: Digi-Key; Supplier Part Number 1: 493-14610-1-ND; ComponentLink1Description: Datasheet; ComponentLink1URL: http://www.nichicon.co.jp/english/products/pdfs/UHW_e.pdf; ComponentLink2Description: Digi-Key Listing; ComponentLink2URL: https://www.digikey.com/product-detail/en/nichicon/UHW1K271MHD6TO/493-14610-1-ND/5818077; Tolerance: 20%; Voltage: 80V; Price: 1.25; Device Package: Radial, Can, 12.5mm
footprint CAP AL TH D12.5 L5 H22
pins: 1, 2

## UHW1K391MHD1TO
designator C?, comment 390uF  (value not drawn)
CAP ALUM 390UF 20% 80V RADIAL; Part Number: UHW1K391MHD1TO; Manufacturer: Nichicon; TemperatureRange: -40C ~ 105C; Type: Polar; Ripple Current: 1.105A @ 120Hz; Impedance: 49 mOhm; Value: 390uF; PartId: 24150; Supplier 1: Digi-Key; Supplier Part Number 1: 493-14611-1-ND; ComponentLink1Description: Datasheet; ComponentLink1URL: http://www.nichicon.co.jp/english/products/pdfs/UHW_e.pdf; ComponentLink2Description: Digi-Key Listing; ComponentLink2URL: https://www.digikey.com/product-detail/en/nichicon/UHW1K391MHD1TO/493-14611-1-ND/5818078; Tolerance: 20%; Voltage: 80V; Price: 1.5; Device Package: Radial, Can, 12.5mm
footprint CAP AL TH D12.5 L5 H27
pins: 1, 2

## UHW1K471MHD
designator C?, comment 470uF  (value not drawn)
CAP ALUM 470UF 20% 80V RADIAL; Part Number: UHW1K471MHD; Manufacturer: Nichicon; TemperatureRange: -40C ~ 105C; Type: Polar; Ripple Current: 1.2A @ 120Hz; Impedance: 44 mOhm; Value: 470uF; PartId: 24371; Supplier 1: Digi-Key; Supplier Part Number 1: 493-14576-ND; ComponentLink1Description: Datasheet; ComponentLink1URL: http://www.nichicon.co.jp/english/products/pdfs/UHW_e.pdf; ComponentLink2Description: Digi-Key Listing; ComponentLink2URL: https://www.digikey.com/product-detail/en/nichicon/UHW1K471MHD/493-14576-ND/5818015; Tolerance: 20%; Voltage: 80V; Price: 1.6; Device Package: Radial, Can, 12.5mm
footprint CAP AL TH D12.5 L5 H35.5
pins: 1, 2

## UHW1K681MHD6TN
designator C?, comment 680uF  (value not drawn)
CAP ALUM 680UF 20% 80V RADIAL; Part Number: UHW1K681MHD6TN; Manufacturer: Nichicon; TemperatureRange: -40C ~ 105C; Type: Polar; Ripple Current: 1.458A @ 120Hz; Impedance: 40 mOhm; Value: 680uF; PartId: 26946; Supplier 1: Digi-Key; Supplier Part Number 1: 493-14579-ND; ComponentLink1Description: Datasheet; ComponentLink1URL: http://www.nichicon.co.jp/english/products/pdfs/UHW_e.pdf; ComponentLink2Description: Digi-Key Listing; ComponentLink2URL: https://www.digikey.com/product-detail/en/nichicon/UHW1K681MHD6TN/493-14579-ND/5818018; Tolerance: 20%; Voltage: 80V; Price: 2.01; Device Package: Radial, Can, 16mm
footprint CAP AL TH D16 L7.5 H27
pins: 1, 2

## UHW1K821MHD
designator C?, comment 820uF  (value not drawn)
CAP ALUM 820UF 20% 80V RADIAL; Part Number: UHW1K821MHD; Manufacturer: Nichicon; TemperatureRange: -40C ~ 105C; Type: Polar; Ripple Current: 1.584A @ 120Hz; Impedance: 33 mOhm; Value: 820uF; PartId: 27220; Supplier 1: Digi-Key; Supplier Part Number 1: 493-14580-ND; ComponentLink1Description: Datasheet; ComponentLink1URL: http://www.nichicon.co.jp/english/products/pdfs/UHW_e.pdf; ComponentLink2Description: Digi-Key Listing; ComponentLink2URL: https://www.digikey.com/product-detail/en/nichicon/UHW1K821MHD/493-14580-ND/5818019; Tolerance: 20%; Voltage: 80V; Price: 2.32; Device Package: Radial, Can, 16mm
footprint CAP AL TH D16 L7.5 H33.5
pins: 1, 2

## UHW1V102MHD
designator C?, comment 1000uF  (value not drawn)
CAP ALUM 1000UF 20% 35V RADIAL; Part Number: UHW1V102MHD; Manufacturer: Nichicon; TemperatureRange: -40C ~ 105C; Type: Polar; Ripple Current: 1.56A @ 120Hz; Impedance: 16 mOhm; Value: 1000uF; PartId: 23499; Supplier 1: Digi-Key; Supplier Part Number 1: 493-6822-ND; ComponentLink1Description: Datasheet; ComponentLink1URL: http://nichicon-us.com/english/products/pdfs/e-uhw.pdf; ComponentLink2Description: Digi-Key Listing; ComponentLink2URL: https://www.digikey.com/product-detail/en/nichicon/UHW1V102MHD/493-6822-ND/3664349; Tolerance: 20%; Voltage: 35V; Price: 1.22; Device Package: Radial, Can, 12.5mm
footprint CAP AL TH D12.5 L5 H22
pins: 1, 2

## UHW1V122MHD
designator C?, comment 1200uF  (value not drawn)
CAP ALUM 1200UF 20% 35V RADIAL; Part Number: UHW1V122MHD; Manufacturer: Nichicon; TemperatureRange: -40C ~ 105C; Type: Polar; Ripple Current: 1.92A @ 120Hz; Impedance: 15 mOhm; Value: 1200uF; PartId: 24121; Supplier 1: Digi-Key; Supplier Part Number 1: 493-6926-ND; ComponentLink1Description: Datasheet; ComponentLink1URL: http://nichicon-us.com/english/products/pdfs/e-uhw.pdf; ComponentLink2Description: Digi-Key Listing; ComponentLink2URL: https://www.digikey.com/product-detail/en/nichicon/UHW1V122MHD/493-6926-ND/3664321; Tolerance: 20%; Voltage: 35V; Price: 1.41; Device Package: Radial, Can, 12.5mm
footprint CAP AL TH D12.5 L5 H27
pins: 1, 2

## UHW1V182MHD
designator C?, comment 1800uF  (value not drawn)
CAP ALUM 1800UF 20% 35V RADIAL; Part Number: UHW1V182MHD; Manufacturer: Nichicon; TemperatureRange: -40C ~ 105C; Type: Polar; Ripple Current: 2.277A @ 120Hz; Impedance: 12 mOhm; Value: 1800uF; PartId: 24385; Supplier 1: Digi-Key; Supplier Part Number 1: 493-6803-ND; ComponentLink1Description: Datasheet; ComponentLink1URL: http://nichicon-us.com/english/products/pdfs/e-uhw.pdf; ComponentLink2Description: Digi-Key Listing; ComponentLink2URL: https://www.digikey.com/product-detail/en/nichicon/UHW1V182MHD/493-6803-ND/3664361; Tolerance: 20%; Voltage: 35V; Price: 1.73; Device Package: Radial, Can, 12.5mm
footprint CAP AL TH D12.5 L5 H35.5
pins: 1, 2

## UHW1V182MHD6
designator C?, comment 1800uF  (value not drawn)
CAP ALUM 1800UF 20% 35V RADIAL; Part Number: UHW1V182MHD6; Manufacturer: Nichicon; TemperatureRange: -40C ~ 105C; Type: Polar; Ripple Current: 2.286A @ 120Hz; Impedance: 13 mOhm; Value: 1800uF; PartId: 26952; Supplier 1: Digi-Key; Supplier Part Number 1: 493-6847-ND; ComponentLink1Description: Datasheet; ComponentLink1URL: http://nichicon-us.com/english/products/pdfs/e-uhw.pdf; ComponentLink2Description: Digi-Key Listing; ComponentLink2URL: https://www.digikey.com/product-detail/en/nichicon/UHW1V182MHD6/493-6847-ND/3664333; Tolerance: 20%; Voltage: 35V; Price: 2.05; Device Package: Radial, Can, 16mm
footprint CAP AL TH D16 L7.5 H27
pins: 1, 2

## UHW1V222MHD6
designator C?, comment 2200uF  (value not drawn)
CAP ALUM 2200UF 20% 35V RADIAL; Part Number: UHW1V222MHD6; Manufacturer: Nichicon; TemperatureRange: -40C ~ 105C; Type: Polar; Ripple Current: 2.858A @ 120Hz; Impedance: 13 mOhm; Value: 2200uF; PartId: 26955; Supplier 1: Digi-Key; Supplier Part Number 1: 493-6966-ND; ComponentLink1Description: Datasheet; ComponentLink1URL: http://nichicon-us.com/english/products/pdfs/e-uhw.pdf; ComponentLink2Description: Digi-Key Listing; ComponentLink2URL: https://www.digikey.com/product-detail/en/nichicon/UHW1V222MHD6/493-6966-ND/3664364; Tolerance: 20%; Voltage: 35V; Price: 2.1; Device Package: Radial, Can, 16mm
footprint CAP AL TH D16 L7.5 H27
pins: 1, 2

## UHW1V332MHD
designator C?, comment 3300uF  (value not drawn)
CAP ALUM 3300UF 20% 35V RADIAL; Part Number: UHW1V332MHD; Manufacturer: Nichicon; TemperatureRange: -40C ~ 105C; Type: Polar; Ripple Current: 3A @ 120Hz; Impedance: 11 mOhm; Value: 3300uF; PartId: 27241; Supplier 1: Digi-Key; Supplier Part Number 1: 493-6964-ND; ComponentLink1Description: Datasheet; ComponentLink1URL: http://nichicon-us.com/english/products/pdfs/e-uhw.pdf; ComponentLink2Description: Digi-Key Listing; ComponentLink2URL: https://www.digikey.com/product-detail/en/nichicon/UHW1V332MHD/493-6964-ND/3664367; Tolerance: 20%; Voltage: 35V; Price: 2.55; Device Package: Radial, Can, 16mm
footprint CAP AL TH D16 L7.5 H33.5
pins: 1, 2

## UHW1V471MPD
designator C?, comment 470uF  (value not drawn)
CAP ALUM 470UF 20% 35V RADIAL; Part Number: UHW1V471MPD; Manufacturer: Nichicon; TemperatureRange: -40C ~ 105C; Type: Polar; Ripple Current: 1A @ 120Hz; Impedance: 30 mOhm; Value: 470uF; PartId: 25393; Supplier 1: Digi-Key; Supplier Part Number 1: 493-6882-ND; ComponentLink1Description: Datasheet; ComponentLink1URL: http://nichicon-us.com/english/products/pdfs/e-uhw.pdf; ComponentLink2Description: Digi-Key Listing; ComponentLink2URL: https://www.digikey.com/product-detail/en/nichicon/UHW1V471MPD/493-6882-ND/3664389; Tolerance: 20%; Voltage: 35V; Price: 0.79; Device Package: Radial, Can, 10mm
footprint CAP AL TH D10 L5 H17.5
pins: 1, 2

## UHW1V561MPD
designator C?, comment 560uF  (value not drawn)
CAP ALUM 560UF 20% 35V RADIAL; Part Number: UHW1V561MPD; Manufacturer: Nichicon; TemperatureRange: -40C ~ 105C; Type: Polar; Ripple Current: 1.25A @ 120Hz; Impedance: 19 mOhm; Value: 560uF; PartId: 25976; Supplier 1: Digi-Key; Supplier Part Number 1: 493-6852-ND; ComponentLink1Description: Datasheet; ComponentLink1URL: http://nichicon-us.com/english/products/pdfs/e-uhw.pdf; ComponentLink2Description: Digi-Key Listing; ComponentLink2URL: https://www.digikey.com/product-detail/en/nichicon/UHW1V561MPD/493-6852-ND/3664468; Tolerance: 20%; Voltage: 35V; Price: 0.89; Device Package: Radial, Can, 10mm
footprint CAP AL TH D10 L5 H22
pins: 1, 2

## UHW1V681MPD
designator C?, comment 680uF  (value not drawn)
CAP ALUM 680UF 20% 35V RADIAL; Part Number: UHW1V681MPD; Manufacturer: Nichicon; TemperatureRange: -40C ~ 105C; Type: Polar; Ripple Current: 1.74A @ 120Hz; Impedance: 17 mOhm; Value: 680uF; PartId: 26172; Supplier 1: Digi-Key; Supplier Part Number 1: 493-6930-ND; ComponentLink1Description: Datasheet; ComponentLink1URL: http://nichicon-us.com/english/products/pdfs/e-uhw.pdf; ComponentLink2Description: Digi-Key Listing; ComponentLink2URL: https://www.digikey.com/product-detail/en/nichicon/UHW1V681MPD/493-6930-ND/3664393; Tolerance: 20%; Voltage: 35V; Price: 0.95; Device Package: Radial, Can, 10mm
footprint CAP AL TH D10 L5 H30
pins: 1, 2

## UHW1V681MPD6
designator C?, comment 680uF  (value not drawn)
CAP ALUM 680UF 20% 35V RADIAL; Part Number: UHW1V681MPD6; Manufacturer: Nichicon; TemperatureRange: -40C ~ 105C; Type: Polar; Ripple Current: 1.5A @ 120Hz; Impedance: 19 mOhm; Value: 680uF; PartId: 25983; Supplier 1: Digi-Key; Supplier Part Number 1: 493-6804-ND; ComponentLink1Description: Datasheet; ComponentLink1URL: http://nichicon-us.com/english/products/pdfs/e-uhw.pdf; ComponentLink2Description: Digi-Key Listing; ComponentLink2URL: https://www.digikey.com/product-detail/en/nichicon/UHW1V681MPD6/493-6804-ND/3664398; Tolerance: 20%; Voltage: 35V; Price: 0.93; Device Package: Radial, Can, 10mm
footprint CAP AL TH D10 L5 H22
pins: 1, 2

## UHW1V821MHD6
designator C?, comment 820uF  (value not drawn)
CAP ALUM 820UF 20% 35V RADIAL; Part Number: UHW1V821MHD6; Manufacturer: Nichicon; TemperatureRange: -40C ~ 105C; Type: Polar; Ripple Current: 1.74A @ 120Hz; Impedance: 16 mOhm; Value: 820uF; PartId: 23483; Supplier 1: Digi-Key; Supplier Part Number 1: 493-6879-ND; ComponentLink1Description: Datasheet; ComponentLink1URL: http://nichicon-us.com/english/products/pdfs/e-uhw.pdf; ComponentLink2Description: Digi-Key Listing; ComponentLink2URL: https://www.digikey.com/product-detail/en/nichicon/UHW1V821MHD6/493-6879-ND/3664345; Tolerance: 20%; Voltage: 35V; Price: 1.16; Device Package: Radial, Can, 12.5mm
footprint CAP AL TH D12.5 L5 H22
pins: 1, 2

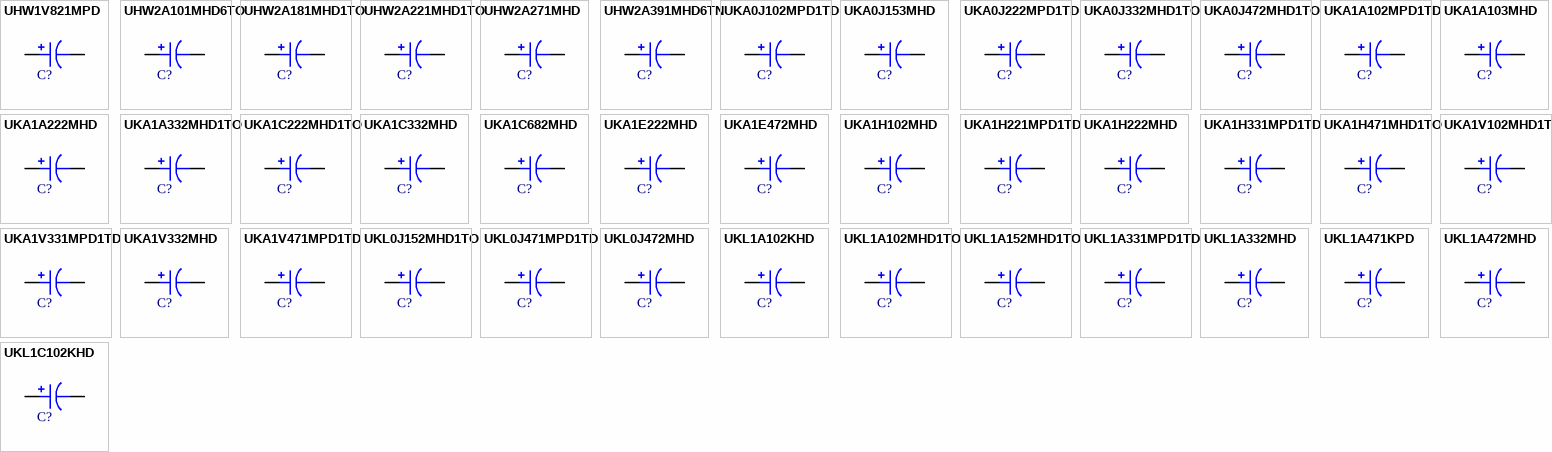
[diagram p75: symbols UHW1V821MPD to UKL1C102KHD]

## UHW1V821MPD
designator C?, comment 820uF  (value not drawn)
CAP ALUM 820UF 20% 35V RADIAL; Part Number: UHW1V821MPD; Manufacturer: Nichicon; TemperatureRange: -40C ~ 105C; Type: Polar; Ripple Current: 1.56A @ 120Hz; Impedance: 17 mOhm; Value: 820uF; PartId: 26178; Supplier 1: Digi-Key; Supplier Part Number 1: 493-6928-ND; ComponentLink1Description: Datasheet; ComponentLink1URL: http://nichicon-us.com/english/products/pdfs/e-uhw.pdf; ComponentLink2Description: Digi-Key Listing; ComponentLink2URL: https://www.digikey.com/product-detail/en/nichicon/UHW1V821MPD/493-6928-ND/3664401; Tolerance: 20%; Voltage: 35V; Price: 0.98; Device Package: Radial, Can, 10mm
footprint CAP AL TH D10 L5 H30
pins: 1, 2

## UHW2A101MHD6TO
designator C?, comment 100uF  (value not drawn)
CAP ALUM 100UF 20% 100V RADIAL; Part Number: UHW2A101MHD6TO; Manufacturer: Nichicon; TemperatureRange: -40C ~ 105C; Type: Polar; Ripple Current: 572mA @ 120Hz; Impedance: 115 mOhm; Value: 100uF; PartId: 22765; Supplier 1: Digi-Key; Supplier Part Number 1: 493-14616-1-ND; ComponentLink1Description: Datasheet; ComponentLink1URL: http://www.nichicon.co.jp/english/products/pdfs/UHW_e.pdf; ComponentLink2Description: Digi-Key Listing; ComponentLink2URL: https://www.digikey.com/product-detail/en/nichicon/UHW2A101MHD6TO/493-14616-1-ND/5818083; Tolerance: 20%; Voltage: 100V; Price: 0; Device Package: Radial, Can, 12.5mm
footprint CAP AL TH D12.5 L5 H16.5
pins: 1, 2

## UHW2A181MHD1TO
designator C?, comment 180uF  (value not drawn)
CAP ALUM 180UF 20% 100V RADIAL; Part Number: UHW2A181MHD1TO; Manufacturer: Nichicon; TemperatureRange: -40C ~ 105C; Type: Polar; Ripple Current: 700mA @ 120Hz; Impedance: 65 mOhm; Value: 180uF; PartId: 23504; Supplier 1: Digi-Key; Supplier Part Number 1: 493-14618-1-ND; ComponentLink1Description: Datasheet; ComponentLink1URL: http://www.nichicon.co.jp/english/products/pdfs/UHW_e.pdf; ComponentLink2Description: Digi-Key Listing; ComponentLink2URL: https://www.digikey.com/product-detail/en/nichicon/UHW2A181MHD1TO/493-14618-1-ND/5818085; Tolerance: 20%; Voltage: 100V; Price: 1.27; Device Package: Radial, Can, 12.5mm
footprint CAP AL TH D12.5 L5 H22
pins: 1, 2

## UHW2A221MHD1TO
designator C?, comment 220uF  (value not drawn)
CAP ALUM 220UF 20% 100V RADIAL; Part Number: UHW2A221MHD1TO; Manufacturer: Nichicon; TemperatureRange: -40C ~ 105C; Type: Polar; Ripple Current: 1.105A @ 120Hz; Impedance: 49 mOhm; Value: 220uF; PartId: 24136; Supplier 1: Digi-Key; Supplier Part Number 1: 493-14619-1-ND; ComponentLink1Description: Datasheet; ComponentLink1URL: http://www.nichicon.co.jp/english/products/pdfs/UHW_e.pdf; ComponentLink2Description: Digi-Key Listing; ComponentLink2URL: https://www.digikey.com/product-detail/en/nichicon/UHW2A221MHD1TO/493-14619-1-ND/5818086; Tolerance: 20%; Voltage: 100V; Price: 1.45; Device Package: Radial, Can, 12.5mm
footprint CAP AL TH D12.5 L5 H27
pins: 1, 2

## UHW2A271MHD
designator C?, comment 270uF  (value not drawn)
CAP ALUM 270UF 20% 100V RADIAL; Part Number: UHW2A271MHD; Manufacturer: Nichicon; TemperatureRange: -40C ~ 105C; Type: Polar; Ripple Current: 1.2A @ 120Hz; Impedance: 44 mOhm; Value: 270uF; PartId: 24361; Supplier 1: Digi-Key; Supplier Part Number 1: 493-14587-ND; ComponentLink1Description: Datasheet; ComponentLink1URL: http://www.nichicon.co.jp/english/products/pdfs/UHW_e.pdf; ComponentLink2Description: Digi-Key Listing; ComponentLink2URL: https://www.digikey.com/product-detail/en/nichicon/UHW2A271MHD/493-14587-ND/5818025; Tolerance: 20%; Voltage: 100V; Price: 1.55; Device Package: Radial, Can, 12.5mm
footprint CAP AL TH D12.5 L5 H35.5
pins: 1, 2

## UHW2A391MHD6TN
designator C?, comment 390uF  (value not drawn)
CAP ALUM 390UF 20% 100V RADIAL; Part Number: UHW2A391MHD6TN; Manufacturer: Nichicon; TemperatureRange: -40C ~ 105C; Type: Polar; Ripple Current: 1.215A @ 120Hz; Impedance: 40 mOhm; Value: 390uF; PartId: 26849; Supplier 1: Digi-Key; Supplier Part Number 1: 493-14621-3-ND; ComponentLink1Description: Datasheet; ComponentLink1URL: http://www.nichicon.co.jp/english/products/pdfs/UHW_e.pdf; ComponentLink2Description: Digi-Key Listing; ComponentLink2URL: https://www.digikey.com/product-detail/en/nichicon/UHW2A391MHD6TN/493-14621-3-ND/5818059; Tolerance: 20%; Voltage: 100V; Price: 1.049; Device Package: Radial, Can, 16mm
footprint CAP AL TH D16 L7.5 H27
pins: 1, 2

## UKA0J102MPD1TD
designator C?, comment 1000uF  (value not drawn)
CAP ALUM 1000UF 20% 6.3V RADIAL; Part Number: UKA0J102MPD1TD; Manufacturer: Nichicon; TemperatureRange: -55C ~ 105C; Type: Polar; Ripple Current: 420mA @ 120Hz; Value: 1000uF; PartId: 24686; Supplier 1: Digi-Key; Supplier Part Number 1: 493-4619-3-ND; ComponentLink1Description: Datasheet; ComponentLink1URL: http://nichicon-us.com/english/products/pdfs/e-uka.pdf; ComponentLink2Description: Digi-Key Listing; ComponentLink2URL: https://www.digikey.com/product-detail/en/nichicon/UKA0J102MPD1TD/493-4619-3-ND/2786994; Tolerance: 20%; Voltage: 6.3V; Price: 0.3447; Device Package: Radial, Can, 10mm
footprint CAP AL TH D10 L5 H14.5
pins: 1, 2

## UKA0J153MHD
designator C?, comment 15000uF  (value not drawn)
CAP ALUM 15000UF 20% 6.3V RADIAL; Part Number: UKA0J153MHD; Manufacturer: Nichicon; TemperatureRange: -55C ~ 105C; Type: Polar; Ripple Current: 2.01A @ 120Hz; Value: 15000uF; PartId: 27424; Supplier 1: Digi-Key; Supplier Part Number 1: 493-4596-ND; ComponentLink1Description: Datasheet; ComponentLink1URL: http://nichicon-us.com/english/products/pdfs/e-uka.pdf; ComponentLink2Description: Digi-Key Listing; ComponentLink2URL: https://www.digikey.com/product-detail/en/nichicon/UKA0J153MHD/493-4596-ND/2786971; Tolerance: 20%; Voltage: 6.3V; Price: 2.76; Device Package: Radial, Can, 16mm
footprint CAP AL TH D16 L7.5 H37
pins: 1, 2

## UKA0J222MPD1TD
designator C?, comment 2200uF  (value not drawn)
CAP ALUM 2200UF 20% 6.3V RADIAL; Part Number: UKA0J222MPD1TD; Manufacturer: Nichicon; TemperatureRange: -55C ~ 105C; Type: Polar; Ripple Current: 710mA @ 120Hz; Value: 2200uF; PartId: 25491; Supplier 1: Digi-Key; Supplier Part Number 1: 493-4622-3-ND; ComponentLink1Description: Datasheet; ComponentLink1URL: http://nichicon-us.com/english/products/pdfs/e-uka.pdf; ComponentLink2Description: Digi-Key Listing; ComponentLink2URL: https://www.digikey.com/product-detail/en/nichicon/UKA0J222MPD1TD/493-4622-3-ND/2786997; Tolerance: 20%; Voltage: 6.3V; Price: 0.4255; Device Package: Radial, Can, 10mm
footprint CAP AL TH D10 L5 H22
pins: 1, 2

## UKA0J332MHD1TO
designator C?, comment 3300uF  (value not drawn)
CAP ALUM 3300UF 20% 6.3V RADIAL; Part Number: UKA0J332MHD1TO; Manufacturer: Nichicon; TemperatureRange: -55C ~ 105C; Type: Polar; Ripple Current: 910mA @ 120Hz; Value: 3300uF; PartId: 23050; Supplier 1: Digi-Key; Supplier Part Number 1: 493-4625-1-ND; ComponentLink1Description: Datasheet; ComponentLink1URL: http://nichicon-us.com/english/products/pdfs/e-uka.pdf; ComponentLink2Description: Digi-Key Listing; ComponentLink2URL: https://www.digikey.com/product-detail/en/nichicon/UKA0J332MHD1TO/493-4625-1-ND/2787052; Tolerance: 20%; Voltage: 6.3V; Price: 0; Device Package: Radial, Can, 12.5mm
footprint CAP AL TH D12.5 L5 H21.5
pins: 1, 2

## UKA0J472MHD1TO
designator C?, comment 4700uF  (value not drawn)
CAP ALUM 4700UF 20% 6.3V RADIAL; Part Number: UKA0J472MHD1TO; Manufacturer: Nichicon; TemperatureRange: -55C ~ 105C; Type: Polar; Ripple Current: 1.12A @ 120Hz; Value: 4700uF; PartId: 23643; Supplier 1: Digi-Key; Supplier Part Number 1: 493-4628-3-ND; ComponentLink1Description: Datasheet; ComponentLink1URL: http://nichicon-us.com/english/products/pdfs/e-uka.pdf; ComponentLink2Description: Digi-Key Listing; ComponentLink2URL: https://www.digikey.com/product-detail/en/nichicon/UKA0J472MHD1TO/493-4628-3-ND/2787003; Tolerance: 20%; Voltage: 6.3V; Price: 0.6925; Device Package: Radial, Can, 12.5mm
footprint CAP AL TH D12.5 L5 H26.5
pins: 1, 2

## UKA1A102MPD1TD
designator C?, comment 1000uF  (value not drawn)
CAP ALUM 1000UF 20% 10V RADIAL; Part Number: UKA1A102MPD1TD; Manufacturer: Nichicon; TemperatureRange: -55C ~ 105C; Type: Polar; Ripple Current: 500mA @ 120Hz; Value: 1000uF; PartId: 25135; Supplier 1: Digi-Key; Supplier Part Number 1: 493-4630-3-ND; ComponentLink1Description: Datasheet; ComponentLink1URL: http://nichicon-us.com/english/products/pdfs/e-uka.pdf; ComponentLink2Description: Digi-Key Listing; ComponentLink2URL: https://www.digikey.com/product-detail/en/nichicon/UKA1A102MPD1TD/493-4630-3-ND/2787005; Tolerance: 20%; Voltage: 10V; Price: 0.3652; Device Package: Radial, Can, 10mm
footprint CAP AL TH D10 L5 H17.5
pins: 1, 2